# Altium schematic symbol library BANANA_BLACK.SchLib: 1 symbol
Pins are listed as number, name and electrical type; pins without a type are passive.

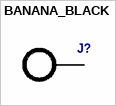
[diagram p0: symbol BANANA_BLACK]

## BANANA_BLACK
designator J?  (value not drawn)
pins: 1